# Altium schematic symbol library CONN_RF.SchLib: 3 symbols
Pins are listed as number, name and electrical type; pins without a type are passive.

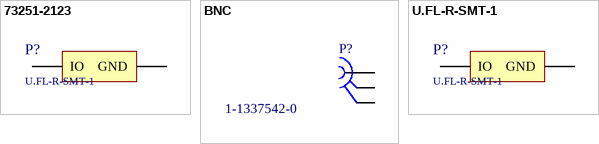
[diagram p0: symbols 73251-2123 to U.FL-R-SMT-1]

## 73251-2123
designator P?, comment U.FL-R-SMT-1
Ultra Miniature Coaxial Connector Receptacle, Male Pin 50 Ohm Surface Mount Solder; Manufacturer: Hirose; f_max_GHz: 6; Impedance: 50; VSWR: 1.3; MatingCycles: 30; Mass: 0.016; Name: U.FL-R-SMT-1; Supplier: https://www.digikey.com/product-detail/en/hirose-electric-co-ltd/U.FL-R-SMT-1-10/H11891TR-ND/2391570
footprint 73251-2123
pins: 0 GND, 1 IO

## BNC
designator P?, comment 1-1337542-0
BNC A/R PCB angled connector 50 Ohm; Part Number: A32268-ND; Part Description: 50 Ohms  BNC Elbow PCB Socket With Mounting Posts + Mount Nut + Lockwasher; Manufacturer: TE Connectivity; Manufacturer Part Number: 5227677-1 + 1-329631-2 + 1-1634817-0; Component Kind: Standard; Component Type: Standard; Footprint: TYCO_1-1337542-0_a; Pin Count: 2; Family: BNC; Mounted: Yes; Socket: No; SMD: No; Status: None; ComponentHeight: 14.93mm; HelpURL: \\cern.ch\dfs\Applications\Altium\Datasheets\TYCO_1-1337542-0.pdf; Author: CERN DEM JLC; CreateDate: 2/2/2012; Price(1): 2.4368; Price(100): 1.3158; Supplier: http://www.compel.ru/infosheet/TYCO/1-1337542-0/; Value: 1-1337542-0; Name: 1-1337542-0; BOMString: 1-1337542-0
footprint 1-1337542-0 (50 Ohms  BNC Elbow PCB Socket With Mounting Posts)
pins: 0, 1, 2

## U.FL-R-SMT-1
designator P?
Ultra Miniature Coaxial Connector Receptacle, Male Pin 50 Ohm Surface Mount Solder; Manufacturer: Hirose; f_max_GHz: 6; Impedance: 50; VSWR: 1.3; MatingCycles: 30; Mass: 0.016; Name: U.FL-R-SMT-1; Supplier: https://www.digikey.com/product-detail/en/hirose-electric-co-ltd/U.FL-R-SMT-1-10/H11891TR-ND/2391570
footprint U.FL-R-SMT-1
pins: 0 GND, 1 IO